# Altium schematic symbol library TPS61085.SchLib: 1 symbol
Pins are listed as number, name and electrical type; pins without a type are passive.

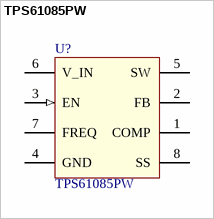
[diagram p0: symbol TPS61085PW]

## TPS61085PW
designator U?
TPS61085 650-kHz,1.2-MHz, 18.5-V Step-Up DC-DC Converter; Value: TPS61085PW
footprint TSSOP-8 (Shrink Small Outline; 8 Leads; Body Width 4.4 mm; Pitch 0.65 mm)
pins: 1 COMP, 2 FB, 3 EN (in), 4 GND (power), 5 SW, 6 V_IN (power), 7 FREQ, 8 SS